# Altium integrated library Qualcomm Bluetooth Products.IntLib: 2 symbols
Pins are listed as number, name and electrical type; pins without a type are passive.

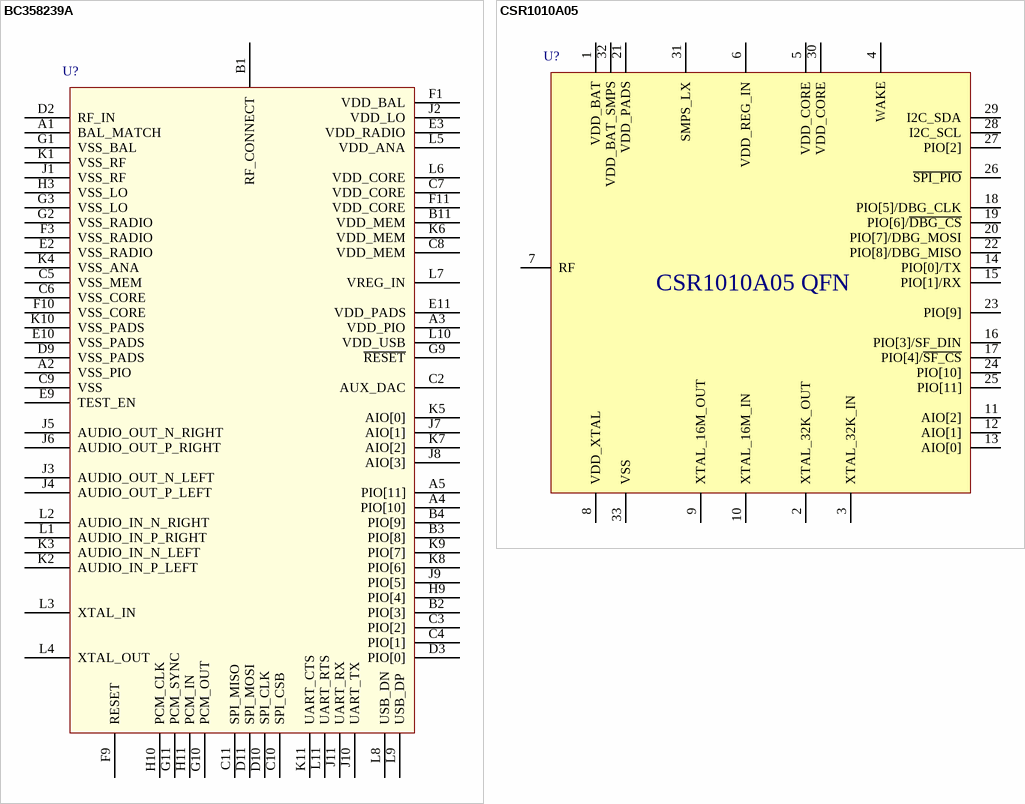
[diagram p0: symbols BC358239A to CSR1010A05]

## BC358239A
designator U?
BlueCore3-Multimedia, Single Chip Bluetooth v1.2 System; Manufacturer: Qualcomm; PartNumber: BC358239A; Package: LFBGA96C80P11X11_1000X1000X140; PackageDescription: LFBGA, 96-Leads, Body 10.0x10.0mm,  Pitch 0.80mm; Supplier 1: NA; Supplier Part Number 1: NA
footprint LFBGA96C80P11X11_1000X1000X140 (LFBGA, 96-Leads, Body 10.0x10.0mm,  Pitch 0.80mm)
pins: A1 BAL_MATCH, A2 VSS_PIO, A3 VDD_PIO, A4 PIO[10], A5 PIO[11], A6 NC hidden, A7 NC hidden, A8 NC hidden, A9 NC hidden, A10 NC hidden, A11 NC hidden, B1 RF_CONNECT, B2 PIO[3], B3 PIO[8], B4 PIO[9], B5 NC hidden, B6 NC hidden, B7 NC hidden, B8 NC hidden, B9 NC hidden, B10 NC hidden, B11 VDD_MEM, C1 NC hidden, C2 AUX_DAC, C3 PIO[2], C4 PIO[1], C5 VSS_MEM, C6 VSS_CORE, C7 VDD_CORE, C8 VDD_MEM, C9 VSS, C10 SPI_CSB, C11 SPI_MISO, D1 NC hidden, D2 RF_IN, D3 PIO[0], D9 VSS_PADS, D10 SPI_CLK, D11 SPI_MOSI, E1 NC hidden, E2 VSS_RADIO, E3 VDD_RADIO, E9 TEST_EN, E10 VSS_PADS, E11 VDD_PADS, F1 VDD_BAL, F2 NC hidden, F3 VSS_RADIO, F9 RESET, F10 VSS_CORE, F11 VDD_CORE, G1 VSS_BAL, G2 VSS_RADIO, G3 VSS_LO, G9 ~{RESET}, G10 PCM_OUT, G11 PCM_SYNC, H1 NC hidden, H2 NC hidden, H3 VSS_LO, H9 PIO[4], H10 PCM_CLK, H11 PCM_IN, J1 VSS_RF, J2 VDD_LO, J3 AUDIO_OUT_N_LEFT, J4 AUDIO_OUT_P_LEFT, J5 AUDIO_OUT_N_RIGHT, J6 AUDIO_OUT_P_RIGHT, J7 AIO[1], J8 AIO[3], J9 PIO[5], J10 UART_TX, J11 UART_RX, K1 VSS_RF, K2 AUDIO_IN_P_LEFT, K3 AUDIO_IN_N_LEFT, K4 VSS_ANA, K5 AIO[0], K6 VDD_MEM, K7 AIO[2], K8 PIO[6], K9 PIO[7], K10 VSS_PADS, K11 UART_CTS, L1 AUDIO_IN_P_RIGHT, L2 AUDIO_IN_N_RIGHT, L3 XTAL_IN, L4 XTAL_OUT, L5 VDD_ANA, L6 VDD_CORE, L7 VREG_IN, L8 USB_DN, L9 USB_DP, L10 VDD_USB, L11 UART_RTS

## CSR1010A05
designator U?
Bluetooth low energy Single-mode IC; Manufacturer: Qualcomm; PartNumber: CSR1010A05; Package: QFN-32; PackageDescription: QFN, 32-Leads, Body 5.00x5.00mm, Pitch 0.50mm, Thermal Pad 3.20x3.20mm; Supplier 1: NA; Supplier Part Number 1: NA
footprint QFN50P500X500X60_HS-33N (QFN, 32-Leads, Body 5.00x5.00mm, Pitch 0.50mm, Thermal Pad 3.20x3.20mm, IPC Medium Density)
footprint QFN50P500X500X60_HS-33M (QFN, 32-Leads, Body 5.00x5.00mm, Pitch 0.50mm, Thermal Pad 3.20x3.20mm, IPC Low Density)
footprint QFN50P500X500X60_HS-33L (QFN, 32-Leads, Body 5.00x5.00mm, Pitch 0.50mm, Thermal Pad 3.20x3.20mm, IPC High Density)
pins: 1 VDD_BAT, 2 XTAL_32K_OUT, 3 XTAL_32K_IN, 4 WAKE, 5 VDD_CORE, 6 VDD_REG_IN, 7 RF, 8 VDD_XTAL, 9 XTAL_16M_OUT, 10 XTAL_16M_IN, 11 AIO[2], 12 AIO[1], 13 AIO[0], 14 PIO[0]/TX, 15 PIO[1]/RX, 16 PIO[3]/SF_DIN, 17 PIO[4]/~{SF_CS}, 18 PIO[5]/DBG_CLK, 19 PIO[6]/~{DBG_CS}, 20 PIO[7]/DBG_MOSI, 21 VDD_PADS, 22 PIO[8]/DBG_MISO, 23 PIO[9], 24 PIO[10], 25 PIO[11], 26 ~{SPI_PIO}, 27 PIO[2], 28 I2C_SCL, 29 I2C_SDA, 30 VDD_CORE, 31 SMPS_LX, 32 VDD_BAT_SMPS, 33 VSS
text: CSR1010A05 QFN